# Altium footprint library L16.PcbLib: 19 footprints (part 1 of 2)
Each footprint in its own frame and in the unit in brackets; x right, y up, seen from the top. Pads: shape width x height; smd on the part's side, far side on the other; paste and mask are expansions set on the pad; w line width, h text height; cw(c..) or ccw(c..) is an arc to the next point about the centre after c.
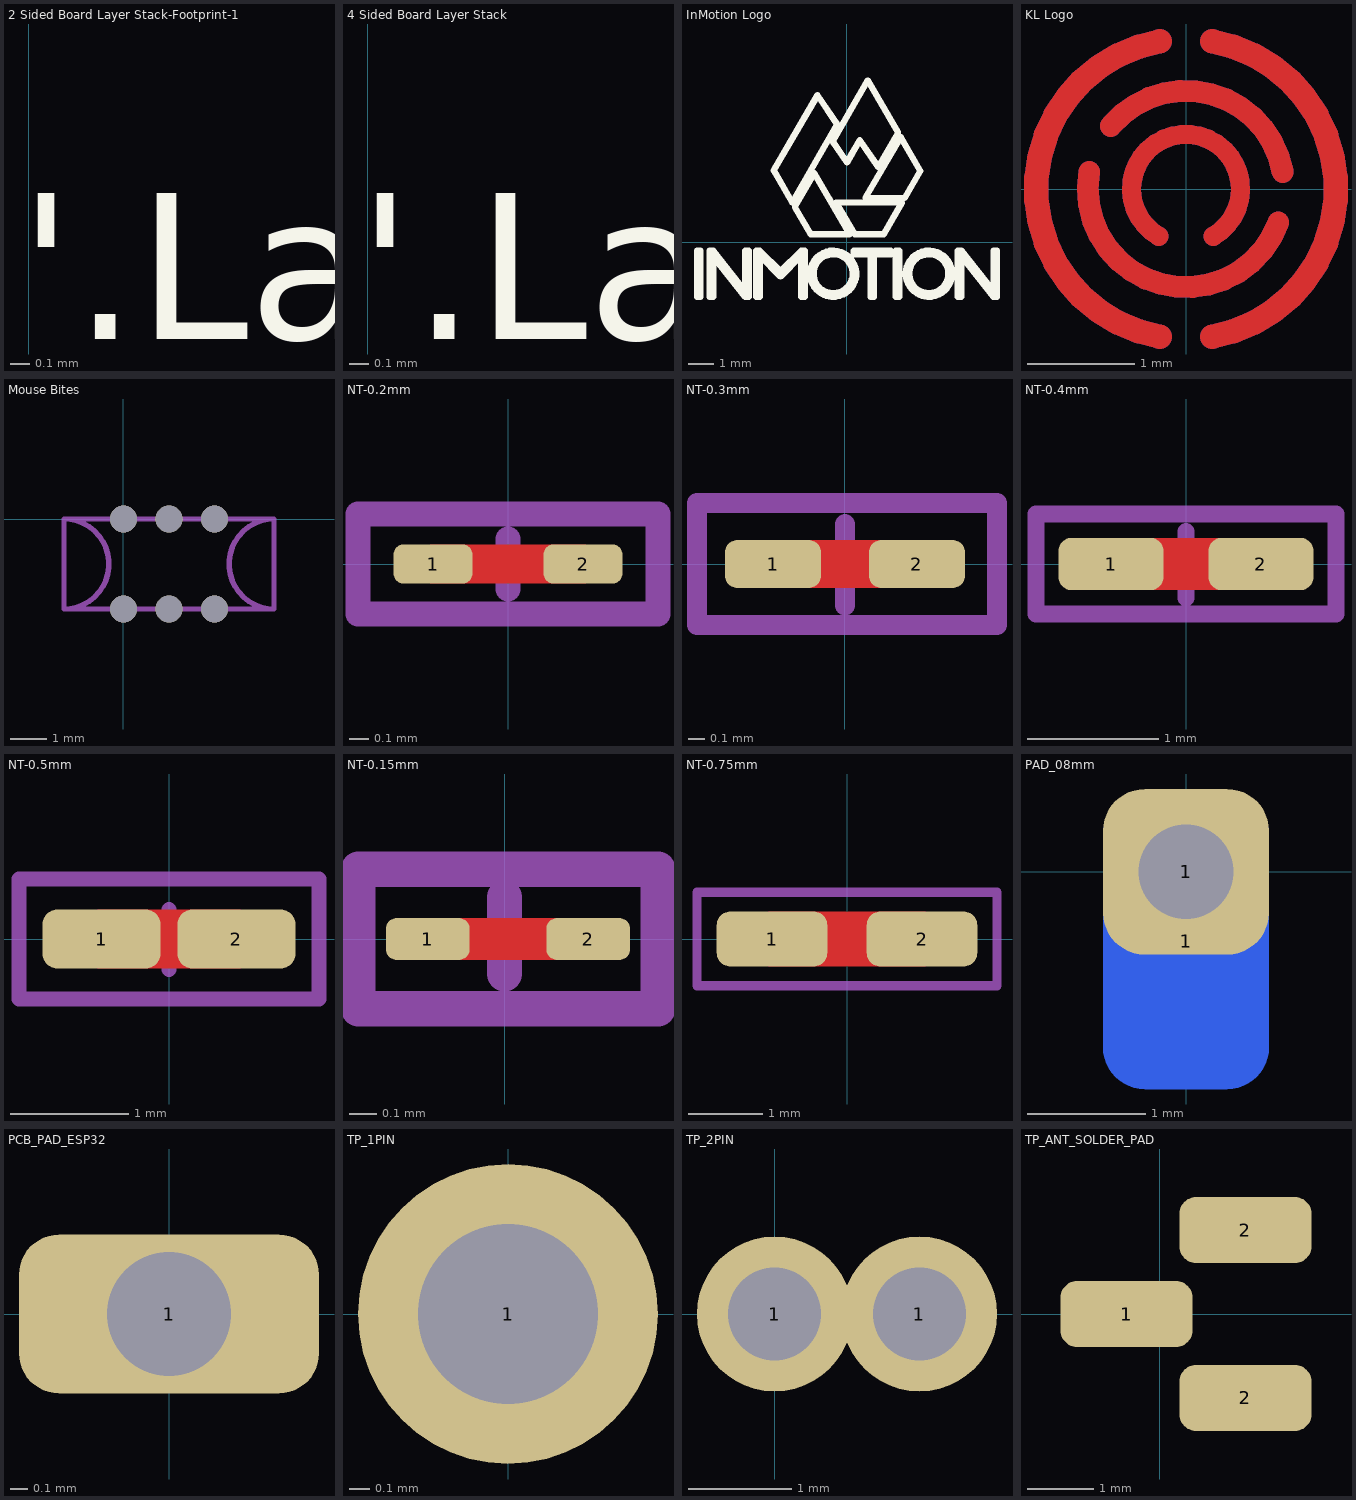
[diagram p0: the footprints below, top view; thin cyan lines are the x and y axes]

## 2 Sided Board Layer Stack-Footprint-1 [mm]
Top Layer:
  text "'.Layer_Name'" at 0,0 h1.52
Bottom Layer:
  text "'.Layer_Name'" at 0,-2.54 h1.52
Top Overlay:
  text "'.Layer_Name'" at -0.05,-10.16 h1.52
Bottom Overlay:
  text "'.Layer_Name'" at 0,-12.7 h1.52
Top Paste:
  text "'.Layer_Name'" at -0.05,-17.78 h1.52
Bottom Paste:
  text "'.Layer_Name'" at -0.05,-20.32 h1.52
Drill Guide:
  text "'.Layer_Name'" at 0,-22.86 h1.52
Mechanical 1:
  text "Mechanical 1 is board outline" at 0,-15.24 h1.52
  text "'.Layer_Name'" at 0,-5.08 h1.52
Mechanical 15:
  text "'.Layer_Name'" at 0,-7.62 h1.52
Multi-Layer:
  text "'.Layer_Name'" at 0,-25.4 h1.52

## 4 Sided Board Layer Stack [mm] "Premade 4 Layers Stackup"
Top Layer:
  text "'.Layer_Name'" at 0,5.08 h1.52
Mid-Layer 1:
  text "'.Layer_Name'" at 0,2.54 h1.52
Mid-Layer 2:
  text "'.Layer_Name'" at 0,0 h1.52
Bottom Layer:
  text "'.Layer_Name'" at 0,-2.54 h1.52
Top Overlay:
  text "'.Layer_Name'" at -0.05,-10.16 h1.52
Bottom Overlay:
  text "'.Layer_Name'" at 0,-12.7 h1.52
Top Paste:
  text "'.Layer_Name'" at -0.05,-17.78 h1.52
Bottom Paste:
  text "'.Layer_Name'" at -0.05,-20.32 h1.52
Drill Guide:
  text "'.Layer_Name'" at 0,-22.86 h1.52
Mechanical 1:
  text "Mechanical 1 is board outline" at 0,-15.24 h1.52
  text "'.Layer_Name'" at 0,-5.08 h1.52
Mechanical 15:
  text "'.Layer_Name'" at 0,-7.62 h1.52
Multi-Layer:
  text "'.Layer_Name'" at 0,-25.4 h1.52

## InMotion Logo [mm]
Top Overlay:
  drawing of 218 lines, arcs and shapes, not listed

## KL Logo [mm]
Top Layer:
  lines w0.178: -0.254,-0.44 cw(c0,0) 0.254,-0.44 ccw(c0,0) -0.254,-0.44
  lines w0.203: -0.901,0.159 ccw(c0,0) 0.859,-0.313 cw(c0,0) -0.901,0.159 ; -0.7,0.588 cw(c0,0) 0.901,0.159 ccw(c0,0) -0.7,0.588
  lines w0.229: -0.243,-1.376 cw(c0,0) -0.243,1.376 ccw(c0,0) -0.243,-1.376 ; 0.243,-1.376 ccw(c0,0) 0.243,1.376 cw(c0,0) 0.243,-1.376
Bottom Layer:
  lines w0.178: -0.254,-0.44 cw(c0,0) 0.254,-0.44 ccw(c0,0) -0.254,-0.44
  lines w0.203: -0.901,0.159 ccw(c0,0) 0.859,-0.313 cw(c0,0) -0.901,0.159 ; -0.7,0.588 cw(c0,0) 0.901,0.159 ccw(c0,0) -0.7,0.588
  lines w0.229: -0.243,-1.376 cw(c0,0) -0.243,1.376 ccw(c0,0) -0.243,-1.376 ; 0.243,-1.376 ccw(c0,0) 0.243,1.376 cw(c0,0) 0.243,-1.376

## Mouse Bites [mm]
via 2.54,0 diameter 0.75 hole 0.75
via 1.27,0 diameter 0.75 hole 0.75
via 0,0 diameter 0.75 hole 0.75
via 0,-2.5 diameter 0.75 hole 0.75
via 1.27,-2.5 diameter 0.75 hole 0.75
via 2.54,-2.5 diameter 0.75 hole 0.75
Mechanical 1:
  lines w0.15: -1.651,-2.5 ccw(c-1.651,-1.25) -1.651,0 ; 4.191,-2.5 cw(c4.191,-1.25) 4.191,0
Mechanical 2:
  lines w0.15: -1.651,-2.5 4.191,-2.5 4.191,0 -1.651,0 -1.651,-2.5

## NT-0.2mm [mm] "NetTie 0.2mm"
pads (2):
  rrect50% 0.4x0.2 smd: 1(-0.381,0) 2(0.381,0)
Top Layer:
  lines w0.2: -0.381,0 0.381,0
Mechanical 13:
  lines w0.127: -0.762,-0.254 -0.762,0.254 0.762,0.254 0.762,-0.254 -0.762,-0.254
Mechanical 15:
  lines w0.127: -0.254,-0.005 0.254,-0.005 ; 0,-0.127 0,0.127 ; -0.762,-0.254 0.762,-0.254 0.762,0.254 -0.762,0.254 -0.762,-0.254
Mechanical 17:
  text "'.Designator'" at -1.143,-0.127 h0.2

## NT-0.3mm [mm] "NetTie 0.3mm"
pads (2):
  rrect50% 0.6x0.3 smd: 1(-0.45,0) 2(0.45,0)
Top Layer:
  lines w0.3: -0.45,0 0.45,0
Mechanical 13:
  lines w0.127: -0.925,-0.381 -0.925,0.381 0.95,0.381 0.95,-0.381 -0.925,-0.381
Mechanical 15:
  lines w0.127: -0.254,-0.005 0.254,-0.005 ; 0,-0.259 0,0.249 ; -0.925,-0.381 0.95,-0.381 0.95,0.381 -0.925,0.381 -0.925,-0.381
Mechanical 17:
  text "'.Designator'" at -1.143,-0.127 h0.2

## NT-0.4mm [mm] "NetTie 0.4mm"
pads (2):
  rrect50% 0.8x0.4 smd: 1(-0.572,0) 2(0.572,0)
Top Layer:
  lines w0.4: -0.572,0 0.572,0
Mechanical 13:
  lines w0.127: -1.143,-0.381 1.143,-0.381 1.143,0.381 -1.143,0.381 -1.143,-0.381
Mechanical 15:
  lines w0.127: -0.254,-0.005 0.254,-0.005 ; 0,-0.259 0,0.249 ; -1.143,-0.381 -1.143,0.381 1.143,0.381 1.143,-0.381 -1.143,-0.381
Mechanical 17:
  text "'.Designator'" at -1.143,-0.127 h0.2

## NT-0.5mm [mm] "NetTie 0.5mm"
pads (2):
  rrect50% 1x0.5 smd: 1(-0.572,0) 2(0.572,0)
Top Layer:
  lines w0.5: -0.572,0 0.572,0
Mechanical 13:
  lines w0.127: -1.27,-0.508 -1.27,0.508 1.27,0.508 1.27,-0.508 -1.27,-0.508
Mechanical 15:
  lines w0.127: -0.254,-0.005 0.254,-0.005 ; 0,-0.259 0,0.249 ; -1.27,-0.508 1.27,-0.508 1.27,0.508 -1.27,0.508 -1.27,-0.508
Mechanical 17:
  text "'.Designator'" at -1.143,-0.127 h0.2

## NT-0.15mm [mm] "NetTie 0.15mm"
pads (2):
  rrect50% 0.3x0.15 smd: 1(-0.275,0) 2(0.3,0)
Top Layer:
  lines w0.15: -0.275,0 0.3,0
Mechanical 13:
  lines w0.127: -0.525,-0.25 0.55,-0.25 0.55,0.25 -0.525,0.25 -0.525,-0.25
Mechanical 15:
  lines w0.127: -0.254,-0.005 0.254,-0.005 ; 0,-0.125 0,0.15 ; -0.525,-0.25 -0.525,0.25 0.55,0.25 0.55,-0.25 -0.525,-0.25
Mechanical 17:
  text "'.Designator'" at -1.143,-0.127 h0.2

## NT-0.75mm [mm] "NetTie 0.75mm"
pads (2):
  rrect50% 1.5x0.75 smd: 1(-1.016,0) 2(1.016,0)
Top Layer:
  lines w0.75: -1.016,0 1.016,0
Mechanical 13:
  lines w0.127: -2.032,-0.635 2.032,-0.635 2.032,0.635 -2.032,0.635 -2.032,-0.635
Mechanical 15:
  lines w0.127: -0.254,-0.005 0.254,-0.005 ; 0,-0.259 0,0.249 ; -2.032,-0.635 -2.032,0.635 2.032,0.635 2.032,-0.635 -2.032,-0.635
Mechanical 17:
  text "'.Designator'" at -1.143,-0.127 h0.2

## PAD_08mm [mm]
pads (2):
  rrect50% 1.4x2.5 smd far side: 1(0,-0.584)
  rrect50% 1.4x1.4 hole 0.8: 1(0,0)

## PCB_PAD_ESP32 [mm]
pads (1):
  rrect50% 1.7x0.9 hole 0.7: 1(0,0)

## TP_1PIN [mm] "Testpoint; 1 Pin;"
pads (1):
  round 1.5 hole 0.9: 1(0,0)
3D body "User Library-TEST POINT BLU Keystone 5117.step": height 4.89, standoff -3.07, extent -1.27,-1.27 1.27,1.27

## TP_2PIN [mm] "Testpoint; 2 Pin;"
pads (2):
  round 1.5 hole 0.9: 1(0,0) 1(1.4,0)

## TP_ANT_SOLDER_PAD [mm]
pads (3):
  rrect50% 2x1 smd: 1(-0.5,0) 2(1.3,-1.27) 2(1.3,1.27)